# Altium footprint library resistor.PCBLIB: 427 footprints (part 2 of 27)
Each footprint in its own frame and in the unit in brackets; x right, y up, seen from the top. Pads: shape width x height; smd on the part's side, far side on the other; paste and mask are expansions set on the pad; w line width, h text height; cw(c..) or ccw(c..) is an arc to the next point about the centre after c.
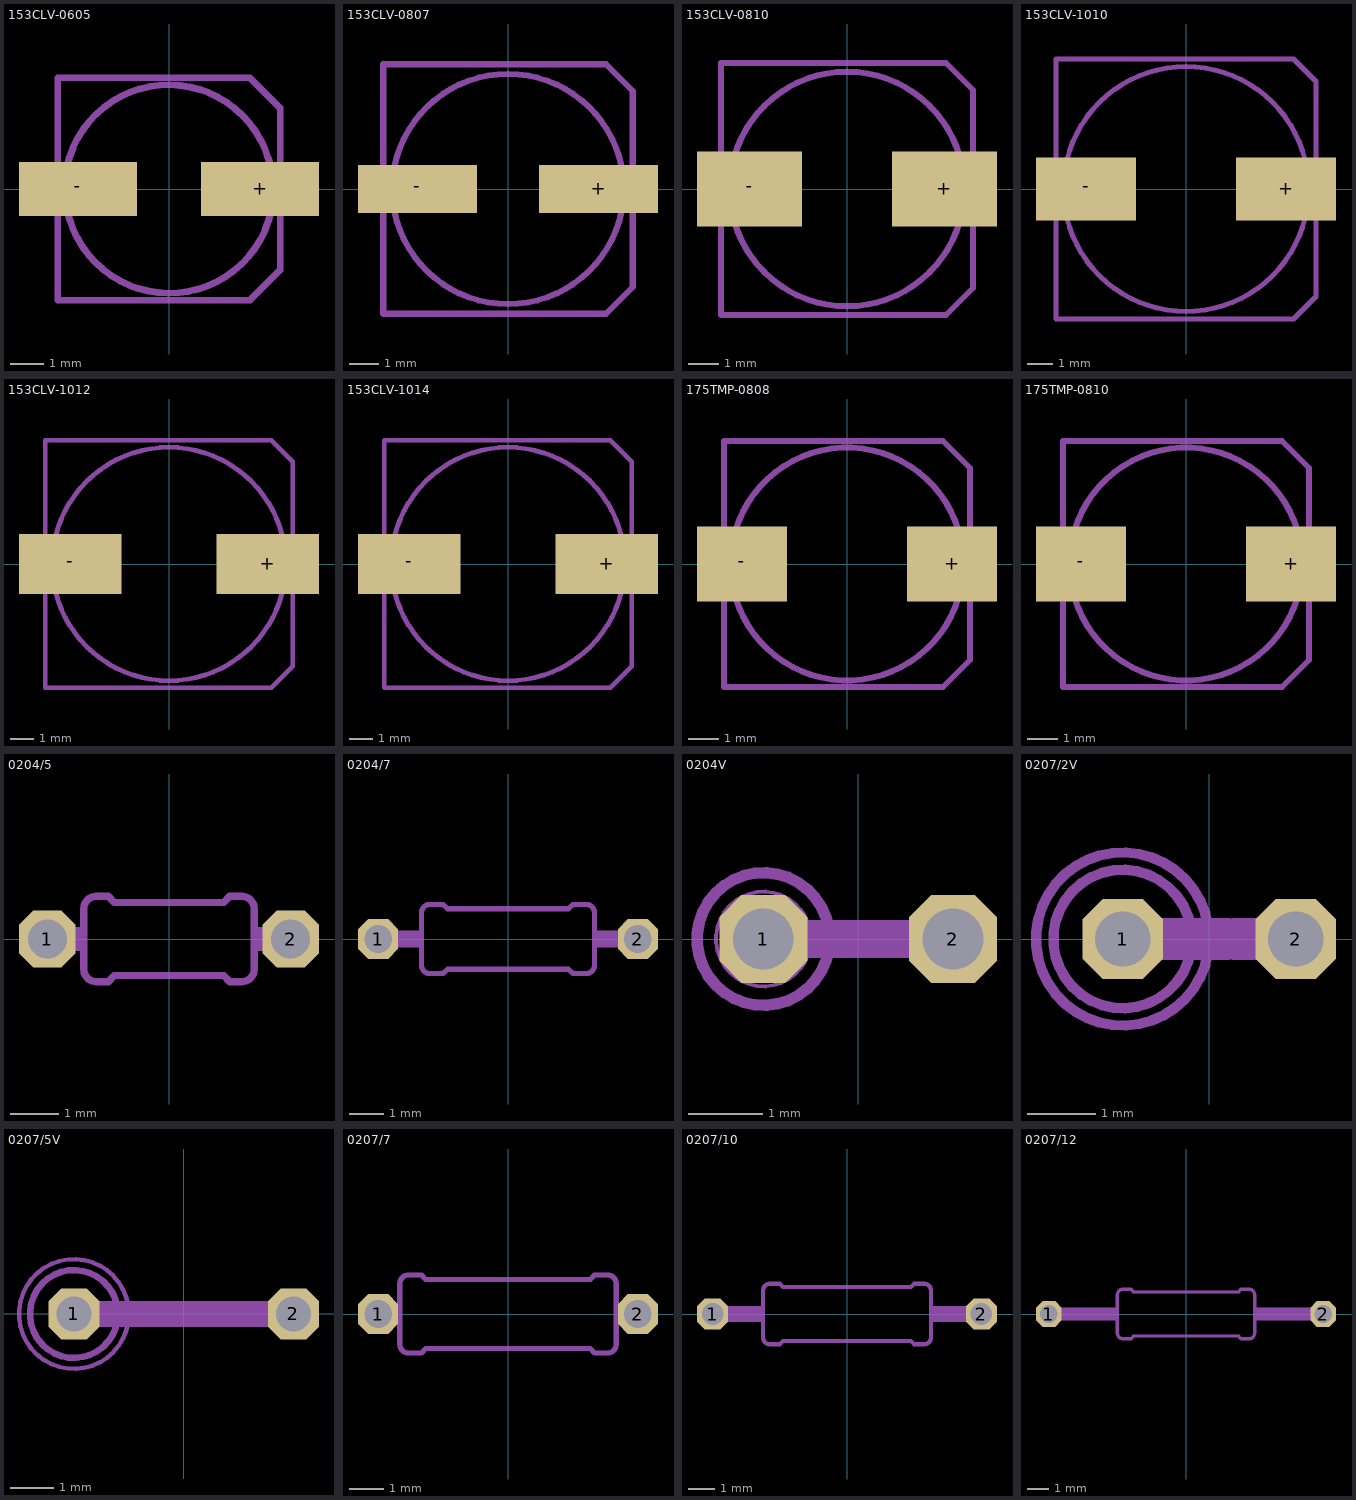
[diagram p1: the footprints below, top view; thin cyan lines are the x and y axes]

## 153CLV-0605 [mil]
pads (2):
  rect 137.8x62.99 smd: +(106.3,0) -(-106.3,0)
Mechanical 2:
  lines w8: -129.92,-43.31 -129.92,-129.92 94.49,-129.92 129.92,-94.49 129.92,-43.31 ; -129.92,43.31 -129.92,129.92 94.49,129.92 129.92,94.49 129.92,43.31 ; -116.14,-35.43 ccw(c0.31,0) 116.14,-37.4 ; -116.14,37.4 cw(c-0.31,0) 116.14,35.43
Mechanical 18:
  lines w8: -129.92,-43.31 -129.92,43.31 ; -116.14,-35.43 cw(c-0.01,0.98) -116.14,37.4 ; 116.14,-37.4 ccw(c0.01,-0.98) 116.14,35.43 ; 129.92,-43.31 129.92,43.31

## 153CLV-0807 [mm]
pads (2):
  rect 4x1.6 smd: +(3.05,0) -(-3.05,0)
Mechanical 2:
  lines w0.203: -4.2,-1.1 -4.2,-4.2 3.3,-4.2 4.2,-3.3 4.2,-1.1 ; -4.2,1.1 -4.2,4.2 3.3,4.2 4.2,3.3 4.2,1.1 ; -3.75,-1.05 ccw(c0,0.025) 3.75,-1.05 ; -3.75,1.05 cw(c0,-0.025) 3.75,1.05
Mechanical 18:
  lines w0.203: -4.2,-1.1 -4.2,1.1 ; -3.75,-1.05 cw(c0,0) -3.75,1.05 ; 3.75,-1.05 ccw(c0,0) 3.75,1.05 ; 4.2,-1.1 4.2,1.1

## 153CLV-0810 [mil]
pads (2):
  rect 137.8x98.43 smd: +(127.95,0) -(-127.95,0)
Mechanical 2:
  lines w8: -165.35,-59.06 -165.35,-165.35 129.92,-165.35 165.35,-129.92 165.35,-59.06 ; -165.35,59.06 -165.35,165.35 129.92,165.35 165.35,129.92 165.35,59.06 ; -143.7,-55.12 ccw(c0,0) 143.7,-55.12 ; -143.7,55.12 cw(c0,0) 143.7,55.12
Mechanical 18:
  lines w8: -165.35,-59.06 -165.35,59.06 ; -143.7,-55.12 cw(c0.01,0) -143.7,55.12 ; 143.7,-55.12 ccw(c-0.01,0) 143.7,55.12 ; 165.35,-59.06 165.35,59.06

## 153CLV-1010 [mm]
pads (2):
  rect 4x2.5 smd: +(4,0) -(-4,0)
Mechanical 2:
  lines w0.203: -5.2,-1.5 -5.2,-5.2 4.3,-5.2 5.2,-4.3 5.2,-1.5 ; -5.2,1.5 -5.2,5.2 4.3,5.2 5.2,4.3 5.2,1.5 ; -4.65,-1.55 ccw(c0,0) 4.65,-1.55 ; -4.65,1.55 cw(c0,0) 4.65,1.55
Mechanical 18:
  lines w0.203: -5.2,-1.5 -5.2,1.5 ; -4.65,-1.55 cw(c0,0) -4.65,1.55 ; 4.65,-1.55 ccw(c0,0) 4.65,1.55 ; 5.2,-1.5 5.2,1.5

## 153CLV-1012 [mil]
pads (2):
  rect 169.29x98.43 smd: +(163.39,0) -(-163.39,0)
Mechanical 2:
  lines w8: -204.72,-59.06 -204.72,-204.72 169.29,-204.72 204.72,-169.29 204.72,-59.06 ; -204.72,59.06 -204.72,204.72 169.29,204.72 204.72,169.29 204.72,59.06 ; -183.07,-61.02 ccw(c0,0) 183.07,-61.02 ; -183.07,61.02 cw(c0,0) 183.07,61.02
Mechanical 18:
  lines w8: -204.72,-59.06 -204.72,59.06 ; -183.07,-61.02 cw(c-0.01,0) -183.07,61.02 ; 183.07,-61.02 ccw(c0.01,0) 183.07,61.02 ; 204.72,-59.06 204.72,59.06

## 153CLV-1014 [mil]
pads (2):
  rect 169.29x98.43 smd: +(163.39,0) -(-163.39,0)
Mechanical 2:
  lines w8: -204.72,-59.06 -204.72,-204.72 169.29,-204.72 204.72,-169.29 204.72,-59.06 ; -204.72,59.06 -204.72,204.72 169.29,204.72 204.72,169.29 204.72,59.06 ; -183.07,-61.02 ccw(c0,0) 183.07,-61.02 ; -183.07,61.02 cw(c0,0) 183.07,61.02
Mechanical 18:
  lines w8: -204.72,-59.06 -204.72,59.06 ; -183.07,-61.02 cw(c-0.01,0) -183.07,61.02 ; 183.07,-61.02 ccw(c0.01,0) 183.07,61.02 ; 204.72,-59.06 204.72,59.06

## 175TMP-0808 [mm]
pads (2):
  rect 3x2.5 smd: +(3.5,0) -(-3.5,0)
Mechanical 2:
  lines w0.203: -4.1,-1.55 -4.1,-4.1 3.2,-4.1 4.1,-3.2 4.1,-1.55 ; -4.1,1.55 -4.1,4.1 3.2,4.1 4.1,3.2 4.1,1.5 ; -3.6,-1.45 ccw(c0,0) 3.6,-1.45 ; -3.6,1.45 cw(c0,0) 3.6,1.45
Mechanical 18:
  lines w0.203: -4.1,-1.55 -4.1,1.55 ; -3.6,-1.45 cw(c0,0) -3.6,1.45 ; 3.6,-1.45 ccw(c0,0) 3.6,1.45 ; 4.1,-1.55 4.1,1.5

## 175TMP-0810 [mm]
pads (2):
  rect 3x2.5 smd: +(3.5,0) -(-3.5,0)
Mechanical 2:
  lines w0.203: -4.1,-1.55 -4.1,-4.1 3.2,-4.1 4.1,-3.2 4.1,-1.55 ; -4.1,1.55 -4.1,4.1 3.2,4.1 4.1,3.2 4.1,1.5 ; -3.6,-1.45 ccw(c0,0) 3.6,-1.45 ; -3.6,1.45 cw(c0,0) 3.6,1.45
Mechanical 18:
  lines w0.203: -4.1,-1.55 -4.1,1.55 ; -3.6,-1.45 cw(c0,0) -3.6,1.45 ; 3.6,-1.45 ccw(c0,0) 3.6,1.45 ; 4.1,-1.55 4.1,1.5

## 0204/5 [mil]
pads (2):
  oct 46.48x46.48 hole 32: 1(-100,0) 2(100,0)
Mechanical 2:
  lines w6: -70,-25 ccw(c-60,-25) -60,-35 -50,-35 -45,-30 45,-30 50,-35 60,-35 ccw(c60,-25) 70,-25 ; -70,25 cw(c-60,25) -60,35 -50,35 -45,30 45,30 50,35 60,35 cw(c60,25) 70,25
Mechanical 18:
  rectangle: -80,-10 -70,10
  rectangle: 70,-10 80,10
  lines w6: -70,-25 -70,25 ; 70,-25 70,25
  lines w20: -100,0 -80,0 ; 80,0 100,0

## 0204/7 [mil]
pads (2):
  oct 46.48x46.48 hole 32: 1(-150,0) 2(150,0)
Mechanical 2:
  rectangle: 100,-10 115,10
  rectangle: -115,-10 -100,10
  lines w6: -100,-30 ccw(c-90,-30) -90,-40 -75,-40 -70,-35 70,-35 75,-40 90,-40 ccw(c90,-30) 100,-30 100,30 ccw(c90,30) 90,40 75,40 70,35 -70,35 -75,40 -90,40 ccw(c-90,30) -100,30 -100,-30
Mechanical 18:
  lines w20: -150,0 -115,0 ; 115,0 150,0

## 0204V [mil]
pads (2):
  oct 46.48x46.48 hole 32: 1(-50,0) 2(50,0)
Mechanical 2:
  lines w20: -5,0 5,0
Mechanical 18:
  circle w6: c-50,0 r35
  circle w2: c-50,0 r25
  lines w20: -50,0 50,0

## 0207/2V [mil]
pads (2):
  oct 46.48x46.48 hole 32: 1(-50,0) 2(50,0)
Mechanical 2:
  circle w6: c-50,0 r50
  lines w24: -10,0 10,0
Mechanical 18:
  circle w6: c-50,0 r40
  lines w24: -50,0 -15,0 ; 15,0 50,0

## 0207/5V [mil]
pads (2):
  oct 46.48x46.48 hole 32: 1(-100,0) 2(100,0)
Mechanical 2:
  circle w4: c-100,0 r50
  lines w24: -30,0 30,0
Mechanical 18:
  circle w6: c-100,0 r40
  lines w24: -100,0 -35,0 ; 35,0 100,0

## 0207/7 [mil]
pads (2):
  oct 46.48x46.48 hole 32: 1(-150,0) 2(150,0)
Mechanical 2:
  lines w6: -125,-35 ccw(c-115,-35) -115,-45 -100,-45 -95,-40 95,-40 100,-45 115,-45 ccw(c115,-35) 125,-35 ; -125,35 cw(c-115,35) -115,45 -100,45 -95,40 95,40 100,45 115,45 cw(c115,35) 125,35
Mechanical 18:
  rectangle: -135,-12 -125,12
  rectangle: 125,-12 135,12
  lines w6: -125,-35 -125,35 ; 125,-35 125,35
  lines w24: -150,0 -135,0 ; 135,0 150,0

## 0207/10 [mil]
pads (2):
  oct 46.48x46.48 hole 32: 1(-200,0) 2(200,0)
Mechanical 2:
  rectangle: 125,-12 159,12
  rectangle: -159,-12 -125,12
  lines w6: -125,-35 ccw(c-115,-35) -115,-45 -100,-45 -95,-40 95,-40 100,-45 115,-45 ccw(c115,-35) 125,-35 125,35 ccw(c115,35) 115,45 100,45 95,40 -95,40 -100,45 -115,45 ccw(c-115,35) -125,35 -125,-35
Mechanical 18:
  lines w24: -200,0 -160,0 ; 160,0 200,0

## 0207/12 [mil]
pads (2):
  oct 46.48x46.48 hole 32: 1(-250,0) 2(250,0)
Mechanical 2:
  rectangle: 125,-12 159,12
  rectangle: -159,-12 -125,12
  rectangle: 175,-12 209,12
  rectangle: -209,-12 -175,12
  lines w6: -125,-35 ccw(c-115,-35) -115,-45 -100,-45 -95,-40 95,-40 100,-45 115,-45 ccw(c115,-35) 125,-35 125,35 ccw(c115,35) 115,45 100,45 95,40 -95,40 -100,45 -115,45 ccw(c-115,35) -125,35 -125,-35
  lines w24: -175,0 -160,0 ; 160,0 175,0
Mechanical 18:
  lines w24: -250,0 -210,0 ; 210,0 250,0